# Altium schematic symbol library PWR_HDR_2P.SchLib: 2 symbols
Pins are listed as number, name and electrical type; pins without a type are passive.

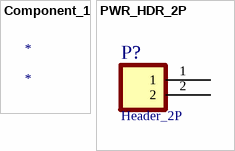
[diagram p0: symbols Component_1 to PWR_HDR_2P]

## Component_1
designator *

## PWR_HDR_2P
designator P?, comment Header_2P
pins: 1, 2